# Altium schematic symbol library PSM712.SchLib: 1 symbol
Pins are listed as number, name and electrical type; pins without a type are passive.

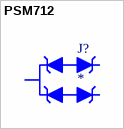
[diagram p0: symbol PSM712]

## PSM712
designator J?
19V Clamp 1A (8/20Âµs) Ipp Tvs Diode Surface Mount SOT-23; MF: Protek Devices; MP: PSM712; SnapEDA_Link: https://www.snapeda.com/parts/PSM712/Protek+Devices/view-part/?ref=snap; Value: *; Check_prices: https://www.snapeda.com/parts/PSM712/Protek+Devices/view-part/?ref=eda; Availability: In Stock; Price: None; Package: Package
footprint SOT23-3
pins: 1 A, 2 A1, 3 C